# Altium integrated library Q-Resistors.IntLib: 917 symbols (part 3 of 8)
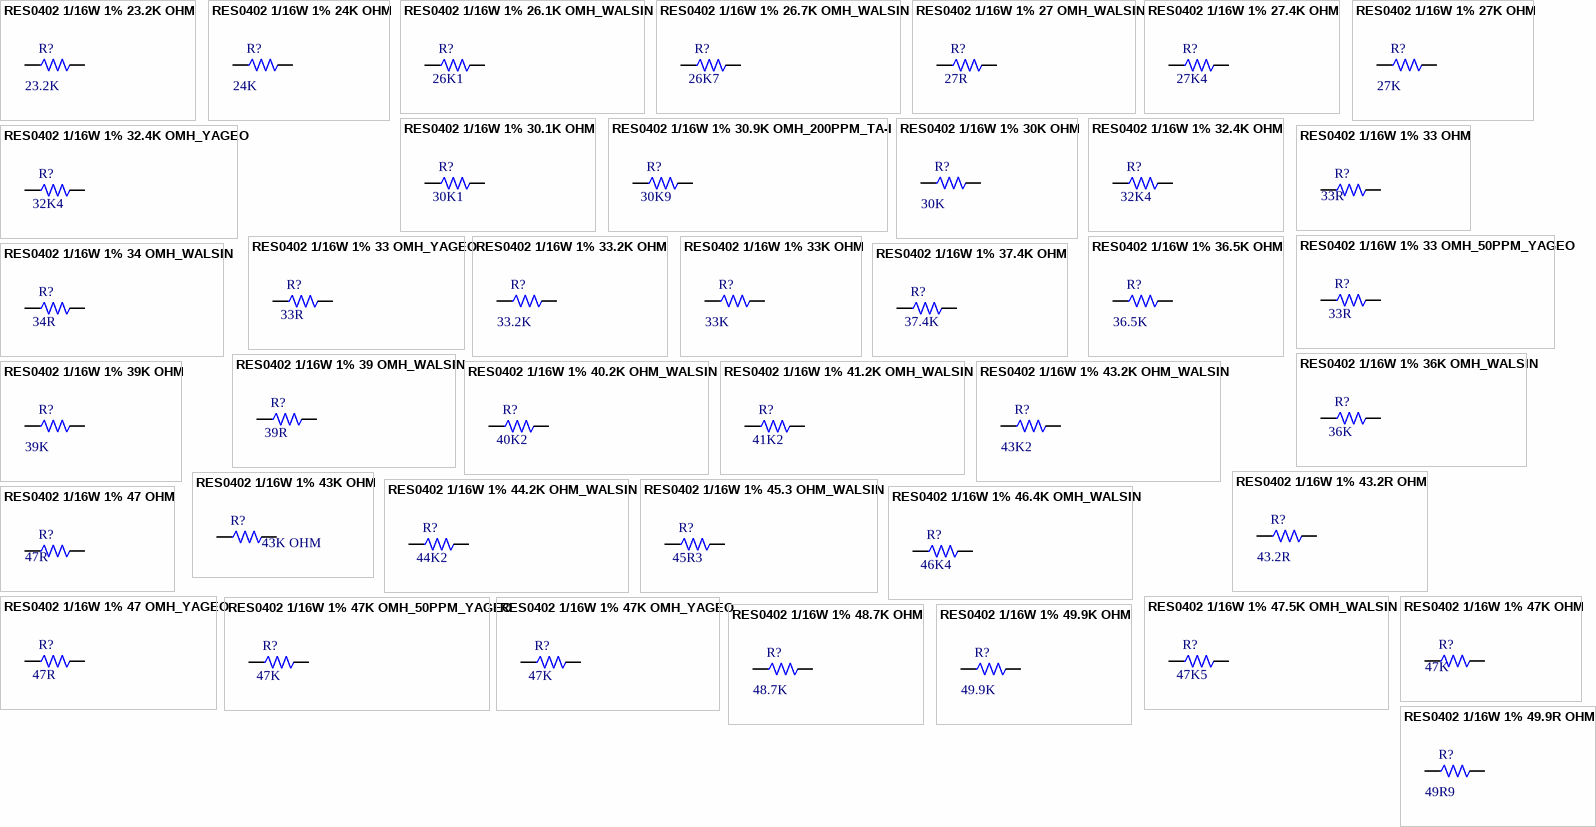
[diagram p24: symbols RES0402 1/16W 1% 23.2K OHM to RES0402 1/16W 1% 49.9R OHM]

## RES0402 1/16W 1% 34 OMH_WALSIN
designator R?, comment value 34R  (hidden comment: T502340A01399)
CHIP 34 OHM 1% 100PPM +-1% 0402 WALS L; MFG Part: WR04X34R0FTL; MFG: WALSIN (華新); Power: 1/16W; CREATE_NAME: Nathan; DIP&SMD: SMD; SAP: T502340A01399; Package: 0402; TOL: 1%; Vendor Code: *; Vendor Name: *; Type: Resistor; CREATE_TIME: 23-May-2016; Customer Specific: N/A
footprint 0402-RW
pins: 1, 2

## RES0402 1/16W 1% 36.5K OHM
designator R?, comment value 36.5K  (hidden comment: QCF161240-3652)
CHIP RES  36.5K OHM 1/16W 1% 0402; SAP: T502365201399; CREATE_NAME: GordonL@Deftronics; DIP&SMD: SMD; Vendor Code: *; Power: 1/16W; Vendor Name: *; MFG Part: *; MFG: *; TOL: 1%; Type: Resistor; CREATE_TIME: 05-Jan-2013; PACKAGE: 0402; Customer Specific: N/A
footprint 0402-RW
pins: 1, 2

## RES0402 1/16W 1% 36K OMH_WALSIN
designator R?, comment value 36K  (hidden comment: T502360201399)
CHIP 36K OHM 100PPM +-1% 0402 WALS L; TOL: 1%; MFG: WALSIN (華新); Power: 1/16W; CREATE_NAME: Nathan; DIP&SMD: SMD; SAP: T502360201399; Package: 0402; MFG Part: *; Vendor Code: *; Vendor Name: *; Type: Resistor; CREATE_TIME: 25-May-2016; Customer Specific: N/A
footprint 0402-RW
pins: 1, 2

## RES0402 1/16W 1% 37.4K OHM
designator R?, comment value 37.4K  (hidden comment: QCF161240-3742)
CHIP RES 37.4K OHM 1% 1/16W 0402; SAP: T502374201399; CREATE_NAME: Evan@Deftronics; DIP&SMD: SMD; Package: 0402; TOL: 1%; MFG Part: *; MFG: *; Vendor Code: *; Vendor Name: *; Type: Resistor; Power: 1/16W; CREATE_TIME: 02-Jun-2014; Customer Specific: N/A
footprint 0402-RW
pins: 1, 2

## RES0402 1/16W 1% 39 OMH_WALSIN
designator R?, comment value 39R  (hidden comment: T502390A01399)
CHIP 39 OHM    100PPM +-1% 0402 WALS L; TOL: 1%; MFG: WALSIN (華新); Power: 1/16W; CREATE_NAME: Nathan; DIP&SMD: SMD; SAP: T502390A01399; Package: 0402; MFG Part: *; Vendor Code: *; Vendor Name: *; Type: Resistor; CREATE_TIME: 25-May-2016; Customer Specific: N/A
footprint 0402-RW
pins: 1, 2

## RES0402 1/16W 1% 39K OHM
designator R?, comment value 39K  (hidden comment: QCF161240-3902)
CHIP RES 39K OHM 1% 1/16W 0402; SAP: T502390201399; CREATE_NAME: Nathan; DIP&SMD: SMD; Vendor Code: *; Power: 1/16W; Vendor Name: *; MFG Part: *; MFG: *; TOL: 1%; Type: Resistor; CREATE_TIME: 22-Dec-2014; PACKAGE: 0402; Customer Specific: N/A
footprint 0402-RW
pins: 1, 2

## RES0402 1/16W 1% 40.2K OHM_WALSIN
designator R?, comment value 40K2  (hidden comment: T502402201399)
CHIP 40.2K OHM 100PPM +-1% 0402 WALS L; MFG Part: WR04X4022FTL; TOL: 1%; MFG: WALSIN (華新); Power: 1/16W; CREATE_NAME: Nathan; DIP&SMD: SMD; SAP: T502402201399; Package: 0402; Vendor Code: *; Vendor Name: *; Type: Resistor; CREATE_TIME: 26-Sep-2019; Customer Specific: N/A
footprint 0402-RW
pins: 1, 2

## RES0402 1/16W 1% 41.2K OMH_WALSIN
designator R?, comment value 41K2  (hidden comment: T502412201399)
CHIP 41.2K OHM 100PPM +-1% 0402 WALS L; TOL: 1%; MFG: WALSIN (華新); Power: 1/16W; CREATE_NAME: Nathan; DIP&SMD: SMD; SAP: T502412201399; Package: 0402; MFG Part: *; Vendor Code: *; Vendor Name: *; Type: Resistor; CREATE_TIME: 25-May-2016; Customer Specific: N/A
footprint 0402-RW
pins: 1, 2

## RES0402 1/16W 1% 43.2K OHM_WALSIN
designator R?, comment value 43K2  (hidden comment: T502432201399)
CHIP 43.2K OHM 100PPM +-1% 0402 WALS L; MFG Part: WR04X4322FTL; Power: 1/16W; MFG: WALSIN (華新); TOL: 1%; CREATE_NAME: Nathan; DIP&SMD: SMD; Vendor Code: *; SAP: T502432201399; Vendor Name: *; Type: Resistor; CREATE_TIME: 15-May-2018; PACKAGE: 0402; Customer Specific: N/A
footprint 0402-RW
pins: 1, 2

## RES0402 1/16W 1% 43.2R OHM
designator R?, comment value 43.2R  (hidden comment: QCF161240-4329)
CHIP RES 43.2 OMH  1% 1/16W 0402; SAP: T502432A01399; CREATE_NAME: GordonL@Deftronics; DIP&SMD: SMD; Vendor Code: *; Power: 1/16W; Vendor Name: *; MFG Part: *; MFG: *; TOL: 1%; Type: Resistor; CREATE_TIME: 18-Mar-2014; PACKAGE: 0402; Customer Specific: N/A
footprint 0402-RW
pins: 1, 2

## RES0402 1/16W 1% 43K OHM
designator R?, comment value 43K OHM  (hidden comment: QCF161240-4302)
RES, 43K OHM, 1/16W, 1%, 0402, RoHS; SAP: T502430201399; CREATE_NAME: Evan@Deftronics; DIP&SMD: SMD; Package: 0402; TOL: 1%; MFG Part: *; MFG: *; Vendor Code: *; Vendor Name: *; Type: Resistor; Power: 1/16W; CREATE_TIME: 26-May-2014; Customer Specific: N/A
footprint 0402-RW
pins: 1, 2

## RES0402 1/16W 1% 44.2K OHM_WALSIN
designator R?, comment value 44K2  (hidden comment: T502442201399)
CHIP 44.2K OHM 100PPM +-1% 0402 WALS L; TOL: 1%; MFG: WALSIN (華新); Power: 1/16W; CREATE_NAME: Nathan; DIP&SMD: SMD; SAP: T502442201399; Package: 0402; MFG Part: *; Vendor Code: *; Vendor Name: *; Type: Resistor; CREATE_TIME: 25-Jun-2019; Customer Specific: N/A
footprint 0402-RW
pins: 1, 2

## RES0402 1/16W 1% 45.3 OHM_WALSIN
designator R?, comment value 45R3  (hidden comment: T502453A01399)
CHIP 45.3 OHM 100PPM +-1% 0402 WALS L; MFG Part: WR04X45R3FTL; Power: 1/16W; MFG: WALSIN (華新); TOL: 1%; CREATE_NAME: Nathan; DIP&SMD: SMD; Vendor Code: *; SAP: T502453A01399; Vendor Name: *; Type: Resistor; CREATE_TIME: 28-Apr-2020; PACKAGE: 0402; Customer Specific: N/A
footprint 0402-RW
pins: 1, 2

## RES0402 1/16W 1% 46.4K OMH_WALSIN
designator R?, comment value 46K4  (hidden comment: T502464201399)
CHIP 46.4K OHM 100PPM +-1% 0402 WALS L; TOL: 1%; MFG: WALSIN (華新); Power: 1/16W; CREATE_NAME: Nathan; DIP&SMD: SMD; SAP: T502464201399; Package: 0402; MFG Part: *; Vendor Code: *; Vendor Name: *; Type: Resistor; CREATE_TIME: 25-May-2016; Customer Specific: N/A
footprint 0402-RW
pins: 1, 2

## RES0402 1/16W 1% 47 OHM
designator R?, comment value 47R  (hidden comment: QCF161240-4709)
CHIP RES 47 OHM 1/16W 1% 0402; SAP: T502470A01399; MFG: WALSIN; DIP&SMD: SMD; Vendor Code: *; Power: 1/16W; Vendor Name: *; MFG Part: *; TOL: 1%; Type: Resistor; PACKAGE: 0402; Customer Specific: N/A
footprint 0402-RW
pins: 1, 2

## RES0402 1/16W 1% 47 OMH_YAGEO
designator R?, comment value 47R  (hidden comment: T502470A01391)
CHIP 47 OHM    100PPM +-1% 0402 YAGE L; TOL: 1%; MFG: YAGEO (國巨); Power: 1/16W; CREATE_NAME: Nathan; DIP&SMD: SMD; SAP: T502470A01391; Package: 0402; MFG Part: *; Vendor Code: *; Vendor Name: *; Type: Resistor; CREATE_TIME: 23-May-2016; Customer Specific: N/A
footprint 0402-RW
pins: 1, 2

## RES0402 1/16W 1% 47.5K OMH_WALSIN
designator R?, comment value 47K5  (hidden comment: T502475201399)
CHIP 47.5K OHM 100PPM +-1% 0402 WALS L; TOL: 1%; MFG: WALSIN (華新); Power: 1/16W; CREATE_NAME: Nathan; DIP&SMD: SMD; SAP: T502475201399; Package: 0402; MFG Part: *; Vendor Code: *; Vendor Name: *; Type: Resistor; CREATE_TIME: 25-May-2016; Customer Specific: N/A
footprint 0402-RW
pins: 1, 2

## RES0402 1/16W 1% 47K OHM
designator R?, comment value 47K  (hidden comment: QCF161243-4702)
CHIP RES 47K 1/16W 1% 0402; SAP: T502470201399; MFG: WALSIN; DIP&SMD: SMD; Vendor Code: *; Power: 1/16W; Vendor Name: *; MFG Part: *; TOL: 1%; Type: Resistor; PACKAGE: 0402; Customer Specific: N/A
footprint 0402-RW
pins: 1, 2

## RES0402 1/16W 1% 47K OMH_50PPM_YAGEO
designator R?, comment value 47K  (hidden comment: T501470201321)
CHIP 47K OHM   50PPM +-1% 0402 YAGE H; TOL: 1%; MFG: YAGEO (國巨); Power: 1/16W; CREATE_NAME: Nathan; DIP&SMD: SMD; SAP: T501470201321; Package: 0402; MFG Part: *; Vendor Code: *; Vendor Name: *; Type: Resistor; CREATE_TIME: 23-May-2016; Customer Specific: N/A
footprint 0402-RW
pins: 1, 2

## RES0402 1/16W 1% 47K OMH_YAGEO
designator R?, comment value 47K  (hidden comment: T502470201391)
CHIP 47K OHM   100PPM +-1% 0402 YAGE L; TOL: 1%; MFG: YAGEO (國巨); Power: 1/16W; CREATE_NAME: Nathan; DIP&SMD: SMD; SAP: T502470201391; Package: 0402; MFG Part: *; Vendor Code: *; Vendor Name: *; Type: Resistor; CREATE_TIME: 23-May-2016; Customer Specific: N/A
footprint 0402-RW
pins: 1, 2

## RES0402 1/16W 1% 48.7K OHM
designator R?, comment value 48.7K  (hidden comment: QCF161240-4872)
CHIP RES  48.7K OHM 1/16W 1% 0402; SAP: T502487201399; CREATE_NAME: GordonL@Deftronics; DIP&SMD: SMD; Vendor Code: *; Power: 1/16W; Vendor Name: *; MFG Part: *; MFG: *; TOL: 1%; Type: Resistor; CREATE_TIME: 05-Jan-2013; PACKAGE: 0402; Customer Specific: N/A
footprint 0402-RW
pins: 1, 2

## RES0402 1/16W 1% 49.9K OHM
designator R?, comment value 49.9K  (hidden comment: QCF161240-4992)
CHIP RES. 49.9K OHM 1/16W 1% 0402; SAP: T502499201399; CREATE_NAME: GordonL@Deftronics; DIP&SMD: SMD; Vendor Code: *; Power: 1/16W; Vendor Name: *; MFG Part: *; MFG: *; TOL: 1%; Type: Resistor; CREATE_TIME: 05-Jan-2013; PACKAGE: 0402; Customer Specific: N/A
footprint 0402-RW
pins: 1, 2

## RES0402 1/16W 1% 49.9R OHM
designator R?, comment value 49R9  (hidden comment: QCF161241-4999)
CHIP RES 49.9 OMH 1/16W 1% 0402; SAP: T502499A01399; CREATE_NAME: GordonL@Deftronics; DIP&SMD: SMD; Vendor Code: *; Power: 1/16W; Vendor Name: *; MFG Part: *; MFG: *; TOL: 1%; Type: Resistor; CREATE_TIME: 21-Feb-2014; PACKAGE: 0402; Customer Specific: N/A
footprint 0402-RW
pins: 1, 2

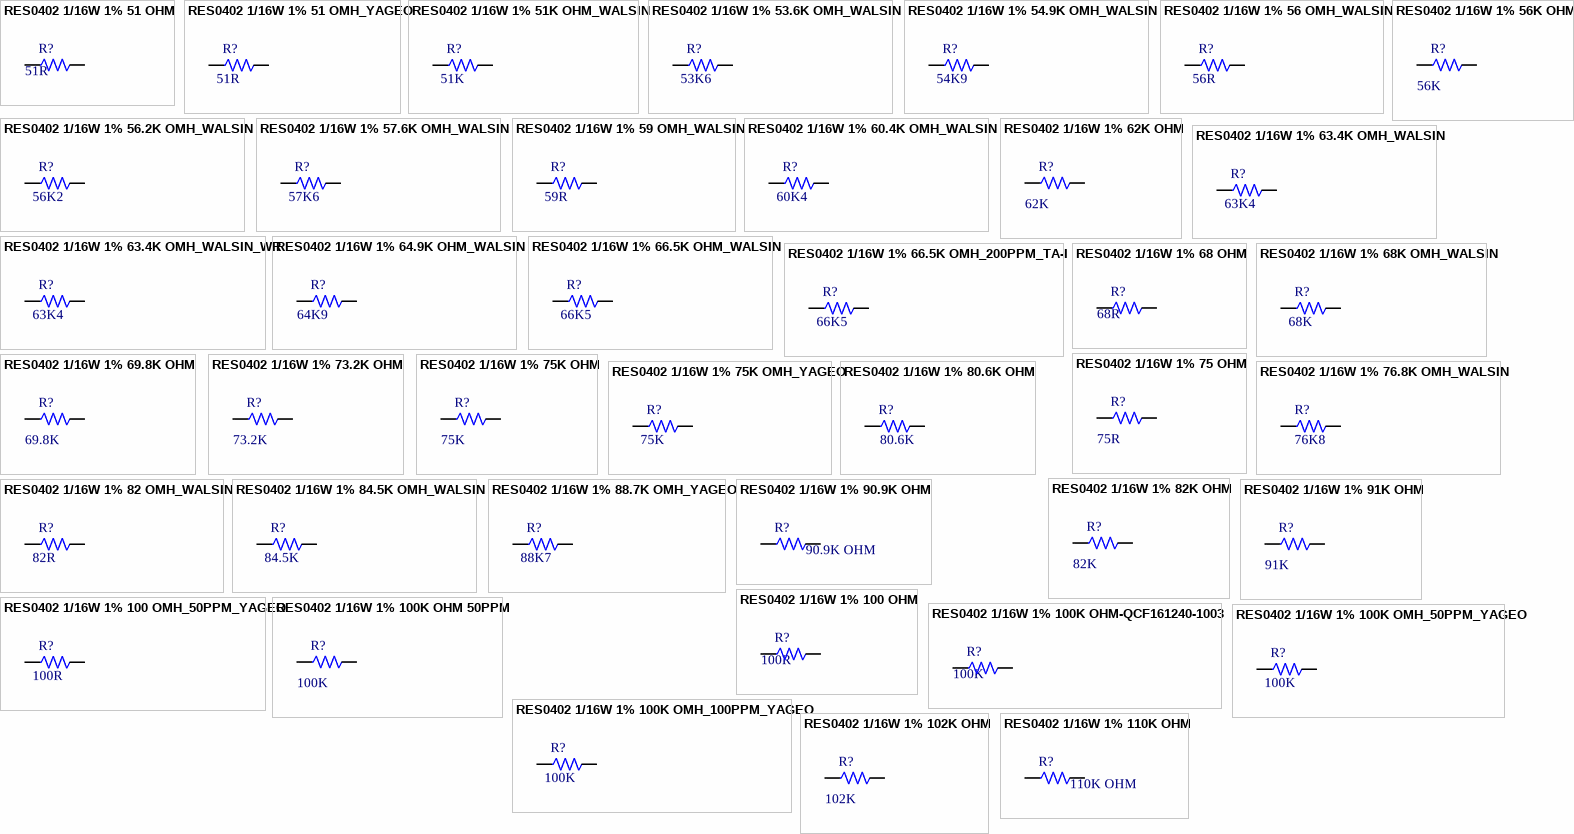
[diagram p7: symbols RES0402 1/16W 1% 51 OHM to RES0402 1/16W 1% 110K OHM]

## RES0402 1/16W 1% 51 OHM
designator R?, comment value 51R  (hidden comment: QCF161240-5109)
CHIP RES  51 OHM 1/16W 1% 0402; SAP: T502510A01399; CREATE_NAME: GordonL@Deftronics; DIP&SMD: SMD; Vendor Code: *; Power: 1/16W; Vendor Name: *; MFG Part: *; MFG: *; TOL: 1%; CREATE_TIME: 05-Jan-2013; Type: Resistor; PACKAGE: 0402; Customer Specific: N/A
footprint 0402-RW
pins: 1, 2

## RES0402 1/16W 1% 51 OMH_YAGEO
designator R?, comment value 51R  (hidden comment: T502510A01391)
CHIP 51 OHM    100PPM +-1% 0402 YAGE L; TOL: 1%; MFG: YAGEO (國巨); Power: 1/16W; CREATE_NAME: Nathan; DIP&SMD: SMD; SAP: T502510A01391; Package: 0402; MFG Part: *; Vendor Code: *; Vendor Name: *; Type: Resistor; CREATE_TIME: 23-May-2016; Customer Specific: N/A
footprint 0402-RW
pins: 1, 2

## RES0402 1/16W 1% 51K OHM_WALSIN
designator R?, comment value 51K  (hidden comment: T502510201399)
CHIP 51K OHM 100PPM +-1% 0402 WALS L; TOL: 1%; MFG: WALSIN (華新); Power: 1/16W; CREATE_NAME: Tom; DIP&SMD: SMD; SAP: T502510201399; Package: 0402; MFG Part: *; Vendor Code: *; Vendor Name: *; Type: Resistor; CREATE_TIME: 25-Jul-2019; Customer Specific: N/A
footprint 0402-RW
pins: 1, 2

## RES0402 1/16W 1% 53.6K OMH_WALSIN
designator R?, comment value 53K6  (hidden comment: T502536201399)
CHIP 53.6K OHM 100PPM +-1% 0402 WALS L; TOL: 1%; MFG: WALSIN (華新); Power: 1/16W; CREATE_NAME: Nathan; DIP&SMD: SMD; SAP: T502536201399; Package: 0402; MFG Part: *; Vendor Code: *; Vendor Name: *; Type: Resistor; CREATE_TIME: 25-May-2016; Customer Specific: N/A
footprint 0402-RW
pins: 1, 2

## RES0402 1/16W 1% 54.9K OMH_WALSIN
designator R?, comment value 54K9  (hidden comment: T502549201399)
CHIP 54.9K OHM 100PPM +-1% 0402 WALS L; TOL: 1%; MFG: WALSIN (華新); Power: 1/16W; CREATE_NAME: Nathan; DIP&SMD: SMD; SAP: T502549201399; Package: 0402; MFG Part: *; Vendor Code: *; Vendor Name: *; Type: Resistor; CREATE_TIME: 25-May-2016; Customer Specific: N/A
footprint 0402-RW
pins: 1, 2

## RES0402 1/16W 1% 56 OMH_WALSIN
designator R?, comment value 56R  (hidden comment: T502560A01399)
CHIP 56 OHM 100PPM +-1% 0402 WALS L; TOL: 1%; MFG: WALSIN (華新); Power: 1/16W; CREATE_NAME: Nathan; DIP&SMD: SMD; SAP: T502560A01399; Package: 0402; MFG Part: *; Vendor Code: *; Vendor Name: *; Type: Resistor; CREATE_TIME: 25-May-2016; Customer Specific: N/A
footprint 0402-RW
pins: 1, 2

## RES0402 1/16W 1% 56.2K OMH_WALSIN
designator R?, comment value 56K2  (hidden comment: T502562201399)
CHIP 56.2K OHM 100PPM +-1% 0402 WALS L; TOL: 1%; MFG: WALSIN (華新); Power: 1/16W; CREATE_NAME: Nathan; DIP&SMD: SMD; SAP: T502562201399; Package: 0402; MFG Part: *; Vendor Code: *; Vendor Name: *; Type: Resistor; CREATE_TIME: 25-May-2016; Customer Specific: N/A
footprint 0402-RW
pins: 1, 2

## RES0402 1/16W 1% 56K OHM
designator R?, comment value 56K  (hidden comment: QCF161240-5602)
CHIP RES 56K OHM 1% 1/16W 0402; SAP: T502560201399; CREATE_NAME: GordonL@Deftronics; DIP&SMD: SMD; Vendor Code: *; Power: 1/16W; Vendor Name: *; MFG Part: *; MFG: *; TOL: 1%; Type: Resistor; CREATE_TIME: 18-Feb-2014; PACKAGE: 0402; Customer Specific: N/A
footprint 0402-RW
pins: 1, 2

## RES0402 1/16W 1% 57.6K OMH_WALSIN
designator R?, comment value 57K6  (hidden comment: T502576201399)
CHIP 57.6K OHM 100PPM +-1% 0402 WALS L; TOL: 1%; MFG: WALSIN (華新); Power: 1/16W; CREATE_NAME: Nathan; DIP&SMD: SMD; SAP: T502576201399; Package: 0402; MFG Part: *; Vendor Code: *; Vendor Name: *; Type: Resistor; CREATE_TIME: 25-May-2016; Customer Specific: N/A
footprint 0402-RW
pins: 1, 2

## RES0402 1/16W 1% 59 OMH_WALSIN
designator R?, comment value 59R  (hidden comment: T502590A01399)
CHIP 59 OHM    100PPM +-1% 0402 WALS L; TOL: 1%; MFG: WALSIN (華新); Power: 1/16W; CREATE_NAME: Nathan; DIP&SMD: SMD; SAP: T502590A01399; Package: 0402; MFG Part: *; Vendor Code: *; Vendor Name: *; Type: Resistor; CREATE_TIME: 25-May-2016; Customer Specific: N/A
footprint 0402-RW
pins: 1, 2

## RES0402 1/16W 1% 60.4K OMH_WALSIN
designator R?, comment value 60K4  (hidden comment: T502604201399)
CHIP 60.4K OHM 100PPM +-1% 0402 WALS L; MFG Part: WR04X6042FTL; TOL: 1%; MFG: WALSIN (華新); Power: 1/16W; CREATE_NAME: Nathan; DIP&SMD: SMD; SAP: T502604201399; Package: 0402; Vendor Code: *; Vendor Name: *; Type: Resistor; CREATE_TIME: 23-Apr-2019; Customer Specific: N/A
footprint 0402-RW
pins: 1, 2

## RES0402 1/16W 1% 62K OHM
designator R?, comment value 62K  (hidden comment: QCF161240-6202)
CHIP RES 62K OHM 1% 1/16W 0402; SAP: T502620201399; CREATE_NAME: GordonL@Deftronics; DIP&SMD: SMD; Vendor Code: *; Power: 1/16W; Vendor Name: *; MFG Part: *; MFG: *; TOL: 1%; Type: Resistor; CREATE_TIME: 11-Mar-2014; PACKAGE: 0402; Customer Specific: N/A
footprint 0402-RW
pins: 1, 2

## RES0402 1/16W 1% 63.4K OMH_WALSIN
designator R?  value 63K4  (hidden comment: *)
CHIP 63.4K OHM 100PPM +-1% 0402 WALS L; MFG Part: MR04X6342FTL; TOL: 1%; MFG: WALSIN; Power: 1/16W; CREATE_NAME: Nathan; DIP&SMD: SMD; SAP: *; Package: 0402; Vendor Code: *; Vendor Name: *; Type: Resistor; CREATE_TIME: 09-Sep-2020; Customer Specific: N/A
footprint 0402-RW
pins: 1, 2

## RES0402 1/16W 1% 63.4K OMH_WALSIN_WR
designator R?  value 63K4  (hidden comment: *)
CHIP 63.4K OHM 100PPM +-1% 0402 WALS L; MFG Part: WR04X6342FTL; TOL: 1%; MFG: WALSIN; Power: 1/16W; CREATE_NAME: Nathan; DIP&SMD: SMD; SAP: *; Package: 0402; Vendor Code: *; Vendor Name: *; Type: Resistor; CREATE_TIME: 24-Sep-2020; Customer Specific: N/A
footprint 0402-RW
pins: 1, 2

## RES0402 1/16W 1% 64.9K OHM_WALSIN
designator R?  value 64K9  (hidden comment: *)
CHIP 64.9KOHM 100PPM +-1% 0402 WALSIN; MFG Part: WR04X6492FTL; Power: 1/16W; MFG: WALSIN (華新); TOL: 1%; CREATE_NAME: Nathan; DIP&SMD: SMD; Vendor Code: *; SAP: *; Vendor Name: *; Type: Resistor; PACKAGE: 0402; CREATE_TIME: 16-Oct-2020; Customer Specific: N/A
footprint 0402-RW
pins: 1, 2

## RES0402 1/16W 1% 66.5K OHM_WALSIN
designator R?, comment value 66K5  (hidden comment: T502665201399)
CHIP 66.5K OHM 100PPM +-1% 0402 WALS L; MFG Part: WR04X6652FTL; Power: 1/16W; MFG: WALSIN (華新); TOL: 1%; CREATE_NAME: Nathan; DIP&SMD: SMD; Vendor Code: *; SAP: T502665201399; Vendor Name: *; Type: Resistor; CREATE_TIME: 03-Jan-2018; PACKAGE: 0402; Customer Specific: N/A
footprint 0402-RW
pins: 1, 2

## RES0402 1/16W 1% 66.5K OMH_200PPM_TA-I
designator R?, comment value 66K5  (hidden comment: T5026652013A4)
CHIP 66.5K OHM 200PPM +-1% 0402 TA-I L; TOL: 1%; MFG: TA-I (大毅); Power: 1/16W; CREATE_NAME: Nathan; DIP&SMD: SMD; SAP: T5026652013A4; Package: 0402; MFG Part: *; Vendor Code: *; Vendor Name: *; Type: Resistor; CREATE_TIME: 03-July-2016; Customer Specific: N/A
footprint 0402-RW
pins: 1, 2

## RES0402 1/16W 1% 68 OHM
designator R?, comment value 68R  (hidden comment: QCF161241-6809)
CHIP RES 68 OHM 1% 1/16W 0402 WALSIN; SAP: T502680A01399; CREATE_NAME: GordonL@Deftronics; DIP&SMD: SMD; Vendor Code: *; Power: 1/16W; Vendor Name: *; MFG Part: *; MFG: WALSIN; TOL: 1%; CREATE_TIME: 17-OCT-2012; Type: Resistor; PACKAGE: 0402; Customer Specific: N/A
footprint 0402-RW
pins: 1, 2

## RES0402 1/16W 1% 68K OMH_WALSIN
designator R?, comment value 68K  (hidden comment: T502680201399)
CHIP 68K OHM 100PPM +-1% 0402 WALS L; MFG Part: WR04X6802FTL; TOL: 1%; MFG: WALSIN (華新); Power: 1/16W; CREATE_NAME: Nathan; DIP&SMD: SMD; SAP: T502680201399; Package: 0402; Vendor Code: *; Vendor Name: *; Type: Resistor; CREATE_TIME: 08-Jan-2018; Customer Specific: N/A
footprint 0402-RW
pins: 1, 2

## RES0402 1/16W 1% 69.8K OHM
designator R?, comment value 69.8K  (hidden comment: QCF161240-6982)
CHIP RES 69.8K OHM 1% 1/16W 0402; SAP: T502698201399; MFG: TA-I (大毅); CREATE_NAME: GordonL@Deftronics; DIP&SMD: SMD; Vendor Code: *; Power: 1/16W; Vendor Name: *; MFG Part: *; TOL: 1%; Type: Resistor; CREATE_TIME: 24-Feb-2014; PACKAGE: 0402; Customer Specific: N/A
footprint 0402-RW
pins: 1, 2

## RES0402 1/16W 1% 73.2K OHM
designator R?, comment value 73.2K  (hidden comment: QCF161240-7322)
CHIP RES 73.2K OHM 1% 1/16W 0402 ??; SAP: T502732201399; CREATE_NAME: GordonL@Deftronics; DIP&SMD: SMD; Vendor Code: *; Power: 1/16W; Vendor Name: *; MFG Part: *; MFG: *; TOL: 1%; Type: Resistor; CREATE_TIME: 11-Mar-2014; PACKAGE: 0402; Customer Specific: N/A
footprint 0402-RW
pins: 1, 2

## RES0402 1/16W 1% 75 OHM
designator R?, comment value 75R  (hidden comment: QCF161240-7509)
CHIP RES. 75 OHM 1% 1/16W 0402; SAP: T502750A01399; CREATE_NAME: GordonL@Deftronics; DIP&SMD: SMD; Vendor Code: *; Power: 1/16W; Vendor Name: *; MFG Part: *; MFG: *; TOL: 1%; Type: Resistor; CREATE_TIME: 05-Jan-2013; PACKAGE: 0402; Customer Specific: N/A
footprint 0402-RW
pins: 1, 2

## RES0402 1/16W 1% 75K OHM
designator R?, comment value 75K  (hidden comment: QCF161240-7502)
CHIP RES 75K OHM 1% 1/16W 0402; SAP: T502750201399; MFG: WALSIN; CREATE_NAME: GordonL@Deftronics; DIP&SMD: SMD; Vendor Code: *; Power: 1/16W; Vendor Name: *; MFG Part: *; TOL: 1%; Type: Resistor; CREATE_TIME: 28-Feb-2014; PACKAGE: 0402; Customer Specific: N/A
footprint 0402-RW
pins: 1, 2

## RES0402 1/16W 1% 75K OMH_YAGEO
designator R?, comment value 75K  (hidden comment: T502750201391)
CHIP 75K OHM 100PPM +-1% 0402 YAGE L; MFG Part: RC0402FR-0775KL; TOL: 1%; MFG: YAGEO; Power: 1/16W; CREATE_NAME: Tom; DIP&SMD: SMD; SAP: T502750201391; Package: 0402; Type: Resistor; CREATE_TIME: 06-May-2020; Customer Specific: N/A
footprint 0402-RW
pins: 1, 2

## RES0402 1/16W 1% 76.8K OMH_WALSIN
designator R?, comment value 76K8  (hidden comment: T502768201399)
CHIP 76.8K OHM 100PPM +-1% 0402 WALS L; TOL: 1%; MFG: WALSIN; Power: 1/16W; CREATE_NAME: Beryl; DIP&SMD: SMD; SAP: T502768201399; Package: 0402; MFG Part: *; Vendor Code: *; Vendor Name: *; Type: Resistor; CREATE_TIME: 06-Feb-2020; Customer Specific: N/A
footprint 0402-RW
pins: 1, 2

## RES0402 1/16W 1% 80.6K OHM
designator R?, comment value 80.6K  (hidden comment: QCF161240-8062)
CHIP RES 80.6K OHM 1/16W 1% 0402; SAP: T502806201399; CREATE_NAME: TOM@Deftronics; DIP&SMD: SMD; TOL: 1%; MFG Part: *; MFG: *; Vendor Code: *; Vendor Name: *; Type: Resistor; CREATE_TIME: 13-Nov-2013; PACKAGE: 0402; Power: 1/16W; Customer Specific: N/A
footprint 0402-RW
pins: 1, 2

## RES0402 1/16W 1% 82 OMH_WALSIN
designator R?, comment value 82R  (hidden comment: T502820A01399)
CHIP 82 OHM    100PPM +-1% 0402 WALS L; TOL: 1%; MFG: WALSIN (華新); Power: 1/16W; CREATE_NAME: Nathan; DIP&SMD: SMD; SAP: T502820A01399; Package: 0402; MFG Part: *; Vendor Code: *; Vendor Name: *; Type: Resistor; CREATE_TIME: 25-May-2016; Customer Specific: N/A
footprint 0402-RW
pins: 1, 2

## RES0402 1/16W 1% 82K OHM
designator R?, comment value 82K  (hidden comment: QCF161240-8202)
CHIP RES 82K OHM 1/16W 1% 0402; SAP: T502820201399; CREATE_NAME: GordonL@Deftronics; DIP&SMD: SMD; Vendor Code: *; Power: 1/16W; Vendor Name: *; MFG Part: *; MFG: *; TOL: 1%; Type: Resistor; CREATE_TIME: 18-Feb-2014; PACKAGE: 0402; Customer Specific: N/A
footprint 0402-RW
pins: 1, 2

## RES0402 1/16W 1% 84.5K OMH_WALSIN
designator R?, comment value 84.5K  (hidden comment: T502845201399)
CHIP 84.5K OHM 100PPM +-1% 0402 WALS L; MFG Part: WR04X8452FTL; TOL: 1%; MFG: WALSIN; Power: 1/16W; CREATE_NAME: Tom; DIP&SMD: SMD; SAP: T502845201399; Package: 0402; Type: Resistor; CREATE_TIME: 29-Oct-2019; Customer Specific: N/A
footprint 0402-RW
pins: 1, 2

## RES0402 1/16W 1% 88.7K OMH_YAGEO
designator R?, comment value 88K7  (hidden comment: T502887201391)
CHIP 88.7K OHM 100PPM +-1% 0402 YAGE L; TOL: 1%; MFG: YAGEO (國巨); Power: 1/16W; CREATE_NAME: Nathan; DIP&SMD: SMD; SAP: T502887201391; Package: 0402; MFG Part: *; Vendor Code: *; Vendor Name: *; Type: Resistor; CREATE_TIME: 23-May-2016; Customer Specific: N/A
footprint 0402-RW
pins: 1, 2

## RES0402 1/16W 1% 90.9K OHM
designator R?, comment value 90.9K OHM  (hidden comment: QCF161240-9092)
CHIP RES 90.9K OHM 1% 1/16W 0402; SAP: T502909201399; CREATE_NAME: TOM@Deftronics; DIP&SMD: SMD; Package: 0402; TOL: 1%; MFG Part: *; MFG: *; Vendor Code: *; Vendor Name: *; Type: Resistor; Power: 1/16W; CREATE_TIME: 15-May-2014; Customer Specific: N/A
footprint 0402-RW
pins: 1, 2

## RES0402 1/16W 1% 91K OHM
designator R?, comment value 91K  (hidden comment: QCF161240-9102)
CHIP 91K OHM 100PPM +-1% 0402 WALS L; SAP: T502910201399; Power: 1/16W; MFG: WALSIN (華新); TOL: 1%; CREATE_NAME: Nathan; DIP&SMD: SMD; Vendor Code: *; Vendor Name: *; MFG Part: *; Type: Resistor; CREATE_TIME: 25-Sep-2015; PACKAGE: 0402; Customer Specific: N/A
footprint 0402-RW
pins: 1, 2

## RES0402 1/16W 1% 100 OHM
designator R?, comment value 100R  (hidden comment: QCF161240-1000)
CHIP RES 100 OHM 1/16W 1% 0402; SAP: T502100001399; MFG: WALSIN; DIP&SMD: SMD; Vendor Code: *; Power: 1/16W; Vendor Name: *; MFG Part: *; TOL: 1%; Type: Resistor; PACKAGE: 0402; Customer Specific: N/A
footprint 0402-RW
pins: 1, 2

## RES0402 1/16W 1% 100 OMH_50PPM_YAGEO
designator R?, comment value 100R  (hidden comment: T501100001321)
CHIP 100 OHM   50PPM +-1% 0402 YAGE H; TOL: 1%; MFG: YAGEO (國巨); Power: 1/16W; CREATE_NAME: Nathan; DIP&SMD: SMD; SAP: T501100001321; Package: 0402; MFG Part: *; Vendor Code: *; Vendor Name: *; Type: Resistor; CREATE_TIME: 23-May-2016; Customer Specific: N/A
footprint 0402-RW
pins: 1, 2

## RES0402 1/16W 1% 100K OHM 50PPM
designator R?, comment value 100K  (hidden comment: QCF161241-1003)
CHIP RES 100K OHM 1/16W 1% 0402 50ppm; SAP: T501100301329; MFG: WALSIN; DIP&SMD: SMD; Vendor Code: *; Power: 1/16W; Vendor Name: *; MFG Part: *; TOL: 1%; Type: Resistor; PACKAGE: 0402; Customer Specific: N/A
footprint 0402-RW
pins: 1, 2

## RES0402 1/16W 1% 100K OHM-QCF161240-1003
designator R?, comment value 100K  (hidden comment: QCF161240-1003)
CHIP RES 100K OHM 1/16W 1% 0402; SAP: T502100301399; MFG: WALSIN; DIP&SMD: SMD; Vendor Code: *; Power: 1/16W; Vendor Name: *; MFG Part: *; TOL: 1%; Type: Resistor; PACKAGE: 0402; Customer Specific: N/A
footprint 0402-RW
pins: 1, 2

## RES0402 1/16W 1% 100K OMH_50PPM_YAGEO
designator R?, comment value 100K  (hidden comment: T501100301321)
CHIP 100K OHM  50PPM +-1% 0402 YAGE H; TOL: 1%; MFG: YAGEO (國巨); Power: 1/16W; CREATE_NAME: Nathan; DIP&SMD: SMD; SAP: T501100301321; Package: 0402; MFG Part: *; Vendor Code: *; Vendor Name: *; Type: Resistor; CREATE_TIME: 23-May-2016; Customer Specific: N/A
footprint 0402-RW
pins: 1, 2

## RES0402 1/16W 1% 100K OMH_100PPM_YAGEO
designator R?, comment value 100K  (hidden comment: T5021003013A1)
CHIP 100K OHM 100PPM +-1% 0402 YAGE L; MFG Part: RC0402FX-XX100KL; TOL: 1%; MFG: YAGEO (國巨); Power: 1/16W; CREATE_NAME: Nathan; DIP&SMD: SMD; SAP: T5021003013A1; Package: 0402; Vendor Code: *; Vendor Name: *; Type: Resistor; CREATE_TIME: 14-Oct-2020; Customer Specific: N/A
footprint 0402-RW
pins: 1, 2

## RES0402 1/16W 1% 102K OHM
designator R?, comment value 102K  (hidden comment: T502102301399)
CHIP RES 102K OHM 1/16W 1% 0402; MFG: WALSIN; CREATE_NAME: Nathan; DIP&SMD: SMD; Vendor Code: *; SAP: T502102301399; Power: 1/16W; Vendor Name: *; MFG Part: *; TOL: 1%; Type: Resistor; CREATE_TIME: 23-July-2015; PACKAGE: 0402; Customer Specific: N/A
footprint 0402-RW
pins: 1, 2

## RES0402 1/16W 1% 110K OHM
designator R?, comment value 110K OHM  (hidden comment: QCF161240-1103)
RES, 110K OHM, 1/16W, 1%, 0402, HF; SAP: T502110301399; CREATE_NAME: TOM@Deftronics; DIP&SMD: SMD; Package: 0402; TOL: 1%; MFG Part: *; MFG: *; Vendor Code: *; Vendor Name: *; Type: Resistor; Power: 1/16W; CREATE_TIME: 13-May-2014; Customer Specific: N/A
footprint 0402-RW
pins: 1, 2

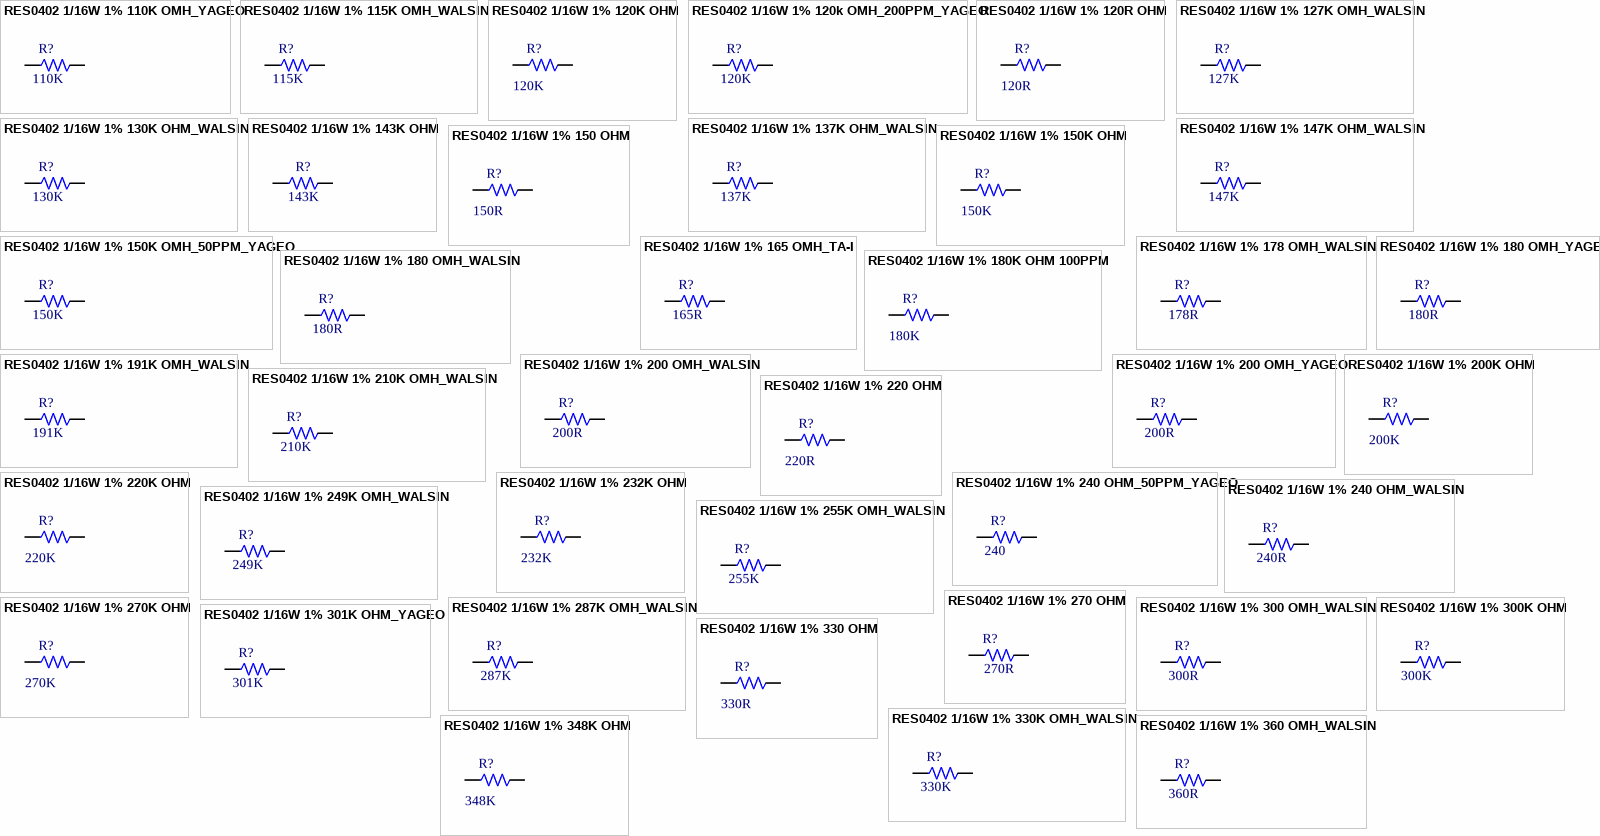
[diagram p8: symbols RES0402 1/16W 1% 110K OMH_YAGEO to RES0402 1/16W 1% 360 OMH_WALSIN]

## RES0402 1/16W 1% 110K OMH_YAGEO
designator R?, comment value 110K  (hidden comment: T502110301391)
CHIP 110K OHM  100PPM +-1% 0402 YAGE L; TOL: 1%; MFG: YAGEO (國巨); Power: 1/16W; CREATE_NAME: Nathan; DIP&SMD: SMD; SAP: T502110301391; Package: 0402; MFG Part: *; Vendor Code: *; Vendor Name: *; Type: Resistor; CREATE_TIME: 23-May-2016; Customer Specific: N/A
footprint 0402-RW
pins: 1, 2

## RES0402 1/16W 1% 115K OMH_WALSIN
designator R?, comment value 115K  (hidden comment: T502115301399)
CHIP 115K OHM  100PPM +-1% 0402 WALS L; TOL: 1%; MFG: WALSIN (華新); Power: 1/16W; CREATE_NAME: Nathan; DIP&SMD: SMD; SAP: T502115301399; Package: 0402; MFG Part: *; Vendor Code: *; Vendor Name: *; Type: Resistor; CREATE_TIME: 25-May-2016; Customer Specific: N/A
footprint 0402-RW
pins: 1, 2

## RES0402 1/16W 1% 120K OHM
designator R?, comment value 120K  (hidden comment: QCF161240-1203)
CHIP 120K OHM 100PPM +-1% 0402 WALS L; SAP: T502120301399; Power: 1/16W; MFG: WALSIN; TOL: 1%; DIP&SMD: SMD; Vendor Code: *; Vendor Name: *; MFG Part: *; Type: Resistor; PACKAGE: 0402; Customer Specific: N/A
footprint 0402-RW
pins: 1, 2

## RES0402 1/16W 1% 120k OMH_200PPM_YAGEO
designator R?, comment value 120K  (hidden comment: T5021203013A1)
CHIP 120K OHM  200PPM +-1% 0402 YAGE L; TOL: 1%; MFG: YAGEO (國巨); Power: 1/16W; CREATE_NAME: Nathan; DIP&SMD: SMD; SAP: T5021203013A1; Package: 0402; MFG Part: *; Vendor Code: *; Vendor Name: *; Type: Resistor; CREATE_TIME: 23-May-2016; Customer Specific: N/A
footprint 0402-RW
pins: 1, 2

## RES0402 1/16W 1% 120R OHM
designator R?, comment value 120R  (hidden comment: QCF161241-1200)
CHIP RES 120 OHM 1% 1/16W 0402 WALSIN; SAP: T502120001399; CREATE_NAME: GordonL@Deftronics; DIP&SMD: SMD; Vendor Code: *; Power: 1/16W; Vendor Name: *; MFG Part: *; MFG: WALSIN; TOL: 1%; CREATE_TIME: 19-OCT-2012; Type: Resistor; PACKAGE: 0402; Customer Specific: N/A
footprint 0402-RW
pins: 1, 2

## RES0402 1/16W 1% 127K OMH_WALSIN
designator R?, comment value 127K  (hidden comment: T502127301399)
CHIP 127K OHM  100PPM +-1% 0402 WALS L; TOL: 1%; MFG: WALSIN (華新); Power: 1/16W; CREATE_NAME: Nathan; DIP&SMD: SMD; SAP: T502127301399; Package: 0402; MFG Part: *; Vendor Code: *; Vendor Name: *; Type: Resistor; CREATE_TIME: 25-May-2016; Customer Specific: N/A
footprint 0402-RW
pins: 1, 2

## RES0402 1/16W 1% 130K OHM_WALSIN
designator R?, comment value 130K  (hidden comment: T502130301399)
CHIP 130K OHM 100PPM +-1% 0402 WALS L; MFG Part: WR04X1303FTL; TOL: 1%; MFG: WALSIN (華新); Power: 1/16W; CREATE_NAME: Nathan; DIP&SMD: SMD; SAP: T502130301399; Package: 0402; Vendor Code: *; Vendor Name: *; Type: Resistor; CREATE_TIME: 07-Oct-2019; Customer Specific: N/A
footprint 0402-RW
pins: 1, 2

## RES0402 1/16W 1% 137K OHM_WALSIN
designator R?, comment value 137K  (hidden comment: T502137301399)
CHIP 137K OHM 100PPM +-1% 0402 WALS L; MFG Part: WR04X1373FTL; TOL: 1%; MFG: WALSIN (華新); Power: 1/16W; CREATE_NAME: Nathan; DIP&SMD: SMD; SAP: T502137301399; Package: 0402; Vendor Code: *; Vendor Name: *; Type: Resistor; CREATE_TIME: 26-Sep-2019; Customer Specific: N/A
footprint 0402-RW
pins: 1, 2

## RES0402 1/16W 1% 143K OHM
designator R?, comment value 143K  (hidden comment: QCF161240-1433)
CHIP RES 143K OHM 1% 1/16W 0402; SAP: T502143301399; CREATE_NAME: Nathan; DIP&SMD: SMD; Package: 0402; TOL: 1%; MFG Part: *; MFG: *; Vendor Code: *; Vendor Name: *; Type: Resistor; Power: 1/16W; CREATE_TIME: 15-Apr-2015; Customer Specific: N/A
footprint 0402-RW
pins: 1, 2

## RES0402 1/16W 1% 147K OHM_WALSIN
designator R?, comment value 147K  (hidden comment: T502147301399)
CHIP 147K OHM 100PPM +-1% 0402 WALS L; MFG Part: WR04X1473FTL; TOL: 1%; MFG: WALSIN; Power: 1/16W; CREATE_NAME: Tom; DIP&SMD: SMD; SAP: T502147301399; Package: 0402; Vendor Code: *; Vendor Name: *; Type: Resistor; CREATE_TIME: 27-Aug-2019; Customer Specific: N/A
footprint 0402-RW
pins: 1, 2

## RES0402 1/16W 1% 150 OHM
designator R?, comment value 150R  (hidden comment: QCF161240-1500)
CHIP RES 150 OHM 1/16W 1% 0402; SAP: T502150001399; MFG: WALSIN; DIP&SMD: SMD; Vendor Code: *; Power: 1/16W; Vendor Name: *; MFG Part: *; TOL: 1%; Type: Resistor; PACKAGE: 0402; Customer Specific: N/A
footprint 0402-RW
pins: 1, 2

## RES0402 1/16W 1% 150K OHM
designator R?, comment value 150K  (hidden comment: QCF161241-1503)
CHIP RES 150K OHM 1/16W 1% 0402; SAP: T502150301399; MFG: WALSIN; DIP&SMD: SMD; Vendor Code: *; Power: 1/16W; Vendor Name: *; MFG Part: *; TOL: 1%; Type: Resistor; PACKAGE: 0402; Customer Specific: N/A
footprint 0402-RW
pins: 1, 2

## RES0402 1/16W 1% 150K OMH_50PPM_YAGEO
designator R?, comment value 150K  (hidden comment: T501150301321)
CHIP 150K OHM  50PPM +-1% 0402 YAGE H; TOL: 1%; MFG: YAGEO (國巨); Power: 1/16W; CREATE_NAME: Nathan; DIP&SMD: SMD; SAP: T501150301321; Package: 0402; MFG Part: *; Vendor Code: *; Vendor Name: *; Type: Resistor; CREATE_TIME: 23-May-2016; Customer Specific: N/A
footprint 0402-RW
pins: 1, 2

## RES0402 1/16W 1% 165 OMH_TA-I
designator R?, comment value 165R  (hidden comment: T502165001394)
CHIP 165 OHM   100PPM +-1% 0402 TA-I L; TOL: 1%; MFG: TA-I (大毅); Power: 1/16W; CREATE_NAME: Nathan; DIP&SMD: SMD; SAP: T502165001394; Package: 0402; MFG Part: *; Vendor Code: *; Vendor Name: *; Type: Resistor; CREATE_TIME: 25-May-2016; Customer Specific: N/A
footprint 0402-RW
pins: 1, 2

## RES0402 1/16W 1% 178 OMH_WALSIN
designator R?, comment value 178R  (hidden comment: T502178001399)
CHIP 178 OHM   100PPM +-1% 0402 WALS L; TOL: 1%; MFG: WALSIN (華新); Power: 1/16W; CREATE_NAME: Nathan; DIP&SMD: SMD; SAP: T502178001399; Package: 0402; MFG Part: *; Vendor Code: *; Vendor Name: *; Type: Resistor; CREATE_TIME: 25-May-2016; Customer Specific: N/A
footprint 0402-RW
pins: 1, 2

## RES0402 1/16W 1% 180 OMH_WALSIN
designator R?, comment value 180R  (hidden comment: T502180001399)
CHIP 180 OHM   100PPM +-1% 0402 WALS L; TOL: 1%; MFG: WALSIN (華新); Power: 1/16W; CREATE_NAME: Nathan; DIP&SMD: SMD; SAP: T502180001399; Package: 0402; MFG Part: *; Vendor Code: *; Vendor Name: *; Type: Resistor; CREATE_TIME: 25-May-2016; Customer Specific: N/A
footprint 0402-RW
pins: 1, 2

## RES0402 1/16W 1% 180 OMH_YAGEO
designator R?, comment value 180R  (hidden comment: T502180001391)
CHIP 180 OHM   100PPM +-1% 0402 YAGE L; TOL: 1%; MFG: YAGEO (國巨); Power: 1/16W; CREATE_NAME: Nathan; DIP&SMD: SMD; SAP: T502180001391; Package: 0402; MFG Part: *; Vendor Code: *; Vendor Name: *; Type: Resistor; CREATE_TIME: 23-May-2016; Customer Specific: N/A
footprint 0402-RW
pins: 1, 2

## RES0402 1/16W 1% 180K OHM 100PPM
designator R?, comment value 180K  (hidden comment: QCF161240-1803)
CHIP RES 100ppm 180K OHM 1% 1/16W 0402; SAP: T502180301399; CREATE_NAME: GordonL@Deftronics; DIP&SMD: SMD; Vendor Code: *; Power: 1/16W; Vendor Name: *; MFG Part: *; MFG: *; TOL: 1%; Type: Resistor; CREATE_TIME: 11-Mar-2014; PACKAGE: 0402; Customer Specific: N/A
footprint 0402-RW
pins: 1, 2

## RES0402 1/16W 1% 191K OMH_WALSIN
designator R?, comment value 191K  (hidden comment: T502191301399)
CHIP 191K OHM 100PPM +-1% 0402 WALS L; MFG Part: WR04X1913FTL; TOL: 1%; MFG: WALSIN; Power: 1/16W; CREATE_NAME: Nathan; DIP&SMD: SMD; SAP: T502191301399; Package: 0402; Vendor Code: *; Vendor Name: *; Type: Resistor; CREATE_TIME: 17-Feb-2020; Customer Specific: N/A
footprint 0402-RW
pins: 1, 2

## RES0402 1/16W 1% 200 OMH_WALSIN
designator R?, comment value 200R  (hidden comment: T502200001399)
CHIP 200 OHM   100PPM +-1% 0402 WALS L; TOL: 1%; MFG: WALSIN (華新); Power: 1/16W; CREATE_NAME: Nathan; DIP&SMD: SMD; SAP: T502200001399; Package: 0402; MFG Part: *; Vendor Code: *; Vendor Name: *; Type: Resistor; CREATE_TIME: 25-May-2016; Customer Specific: N/A
footprint 0402-RW
pins: 1, 2

## RES0402 1/16W 1% 200 OMH_YAGEO
designator R?, comment value 200R  (hidden comment: T502200001391)
CHIP 200 OHM   100PPM +-1% 0402 YAGE L; TOL: 1%; MFG: YAGEO (國巨); Power: 1/16W; CREATE_NAME: Nathan; DIP&SMD: SMD; SAP: T502200001391; Package: 0402; MFG Part: *; Vendor Code: *; Vendor Name: *; Type: Resistor; CREATE_TIME: 23-May-2016; Customer Specific: N/A
footprint 0402-RW
pins: 1, 2

## RES0402 1/16W 1% 200K OHM
designator R?, comment value 200K  (hidden comment: QCF161240-2003)
CHIP RES 200K OHM  1/16W  1% 0402; SAP: T502200301399; CREATE_NAME: GordonL@Deftronics; DIP&SMD: SMD; Vendor Code: *; Power: 1/16W; Vendor Name: *; MFG Part: *; MFG: *; TOL: 1%; Type: Resistor; CREATE_TIME: 20-Mar-2014; PACKAGE: 0402; Customer Specific: N/A
footprint 0402-RW
pins: 1, 2

## RES0402 1/16W 1% 210K OMH_WALSIN
designator R?, comment value 210K  (hidden comment: T502210301399)
CHIP 210K OHM  100PPM +-1% 0402 WALS L; TOL: 1%; MFG: WALSIN (華新); Power: 1/16W; CREATE_NAME: Nathan; DIP&SMD: SMD; SAP: T502210301399; Package: 0402; MFG Part: *; Vendor Code: *; Vendor Name: *; Type: Resistor; CREATE_TIME: 25-May-2016; Customer Specific: N/A
footprint 0402-RW
pins: 1, 2

## RES0402 1/16W 1% 220 OHM
designator R?, comment value 220R  (hidden comment: QCF161240-2200)
CHIP RES 220 OHM 1/16W 1% 0402; SAP: T502220001399; MFG: WALSIN; DIP&SMD: SMD; Vendor Code: *; Power: 1/16W; Vendor Name: *; MFG Part: *; TOL: 1%; Type: Resistor; PACKAGE: 0402; Customer Specific: N/A
footprint 0402-RW
pins: 1, 2

## RES0402 1/16W 1% 220K OHM
designator R?, comment value 220K  (hidden comment: QCF161240-2203)
CHIP RES 220K OHM 1/16W 1% 0402; SAP: T502220301399; MFG: WALSIN; DIP&SMD: SMD; Vendor Code: *; Power: 1/16W; Vendor Name: *; MFG Part: *; TOL: 1%; Type: Resistor; PACKAGE: 0402; Customer Specific: N/A
footprint 0402-RW
pins: 1, 2

## RES0402 1/16W 1% 232K OHM
designator R?, comment value 232K  (hidden comment: QCF161240-2323)
CHIP RES 232K OHM 1% 1/16W 0402; SAP: T502232301399; CREATE_NAME: GordonL@Deftronics; DIP&SMD: SMD; Vendor Code: *; Power: 1/16W; Vendor Name: *; MFG Part: *; MFG: *; TOL: 1%; Type: Resistor; CREATE_TIME: 11-Mar-2014; PACKAGE: 0402; Customer Specific: N/A
footprint 0402-RW
pins: 1, 2

## RES0402 1/16W 1% 240 OHM_50PPM_YAGEO
designator R?, comment value 240  (hidden comment: T501240001321)
CHIP 240 OHM   50PPM +-1% 0402 YAGE H; TOL: 1%; MFG: YAGEO (國巨); Power: 1/16W; CREATE_NAME: Nathan; DIP&SMD: SMD; SAP: T501240001321; Package: 0402; MFG Part: *; Vendor Code: *; Vendor Name: *; Type: Resistor; CREATE_TIME: 23-May-2016; Customer Specific: N/A
footprint 0402-RW
pins: 1, 2

## RES0402 1/16W 1% 240 OHM_WALSIN
designator R?, comment value 240R  (hidden comment: T502240001399)
CHIP 240 OHM 100PPM +-1% 0402 WALS L; TOL: 1%; MFG: WALSIN; Power: 1/16W; CREATE_NAME: Nathan; DIP&SMD: SMD; SAP: T502240001399; Package: 0402; MFG Part: *; Vendor Code: *; Vendor Name: *; Type: Resistor; CREATE_TIME: 27-Mar-2019; Customer Specific: N/A
footprint 0402-RW
pins: 1, 2

## RES0402 1/16W 1% 249K OMH_WALSIN
designator R?, comment value 249K  (hidden comment: T502249301399)
CHIP 249K OHM 100PPM +-1% 0402 WALS L; TOL: 1%; MFG: WALSIN (華新); Power: 1/16W; CREATE_NAME: Nathan; DIP&SMD: SMD; SAP: T502249301399; Package: 0402; MFG Part: *; Vendor Code: *; Vendor Name: *; Type: Resistor; CREATE_TIME: 25-May-2016; Customer Specific: N/A
footprint 0402-RW
pins: 1, 2

## RES0402 1/16W 1% 255K OMH_WALSIN
designator R?, comment value 255K  (hidden comment: T502255301399)
CHIP 255K OHM 100PPM +-1% 0402 WALS L; TOL: 1%; MFG: WALSIN (華新); Power: 1/16W; CREATE_NAME: Nathan; DIP&SMD: SMD; SAP: T502255301399; Package: 0402; MFG Part: *; Vendor Code: *; Vendor Name: *; Type: Resistor; CREATE_TIME: 25-May-2016; Customer Specific: N/A
footprint 0402-RW
pins: 1, 2

## RES0402 1/16W 1% 270 OHM
designator R?, comment value 270R  (hidden comment: T502270001399)
CHIP 270 OHM   100PPM +-1% 0402 WALS G; MFG Part: WR04X2700FTL; Power: 1/16W; MFG: WALSIN; TOL: 1%; CREATE_NAME: Cherry; DIP&SMD: SMD; Vendor Code: *; SAP: T502270001399; Vendor Name: *; Type: Resistor; PACKAGE: 0402; CREATE_TIME: 24-Feb-2016; Customer Specific: N/A
footprint 0402-RW
pins: 1, 2

## RES0402 1/16W 1% 270K OHM
designator R?, comment value 270K  (hidden comment: QCF161240-2703)
CHIP RES 270K OHM  1% 1/16W 0402; SAP: T502270301399; MFG: WALSIN; DIP&SMD: SMD; Vendor Code: *; Power: 1/16W; Vendor Name: *; MFG Part: *; TOL: 1%; Type: Resistor; PACKAGE: 0402; Customer Specific: N/A
footprint 0402-RW
pins: 1, 2

## RES0402 1/16W 1% 287K OMH_WALSIN
designator R?, comment value 287K  (hidden comment: T502287301399)
CHIP 287K OHM 100PPM +-1% 0402 WALS L; MFG Part: WR04X2873FTL; TOL: 1%; MFG: WALSIN; Power: 1/16W; CREATE_NAME: Nathan; DIP&SMD: SMD; SAP: T502287301399; Package: 0402; Vendor Code: *; Vendor Name: *; Type: Resistor; CREATE_TIME: 21-Nov-2017; Customer Specific: N/A
footprint 0402-RW
pins: 1, 2

## RES0402 1/16W 1% 300 OMH_WALSIN
designator R?, comment value 300R  (hidden comment: T502300001399)
CHIP 300 OHM   100PPM +-1% 0402 WALS L; TOL: 1%; MFG: WALSIN (華新); Power: 1/16W; CREATE_NAME: Nathan; DIP&SMD: SMD; SAP: T502300001399; Package: 0402; MFG Part: *; Vendor Code: *; Vendor Name: *; Type: Resistor; CREATE_TIME: 25-May-2016; Customer Specific: N/A
footprint 0402-RW
pins: 1, 2

## RES0402 1/16W 1% 300K OHM
designator R?, comment value 300K  (hidden comment: QCF161240-3003)
CHIP RES 300K OHM 1% 1/16W 0402; Vendor Code: 10010262; SAP: T502300301399; Vendor Name: 东莞市晴远电子有限公司; CREATE_NAME: Nathan; DIP&SMD: SMD; Power: 1/16W; MFG Part: *; MFG: *; TOL: 1%; Type: Resistor; PACKAGE: 0402; CREATE_TIME: 15-SEP-2015; Customer Specific: N/A
footprint 0402-RW
pins: 1, 2

## RES0402 1/16W 1% 301K OHM_YAGEO
designator R?, comment value 301K  (hidden comment: T502301301391)
CHIP 301K OHM 100PPM +-1% 0402 YAGE L; MFG Part: RC0402FR-07301KL; Power: 1/16W; MFG: YAGEO; TOL: 1%; CREATE_NAME: Nathan; DIP&SMD: SMD; Vendor Code: *; SAP: T502301301391; Vendor Name: *; Type: Resistor; PACKAGE: 0402; CREATE_TIME: 27-Jun-2019; Customer Specific: N/A
footprint 0402-RW
pins: 1, 2

## RES0402 1/16W 1% 330 OHM
designator R?, comment value 330R  (hidden comment: QCF161240-3300)
CHIP RES  330 OHM 1/16W 1% 0402; SAP: T502330001399; DIP&SMD: SMD; Vendor Code: *; Power: 1/16W; Vendor Name: *; MFG Part: *; MFG: *; TOL: 1%; Type: Resistor; PACKAGE: 0402; Customer Specific: N/A
footprint 0402-RW
pins: 1, 2

## RES0402 1/16W 1% 330K OMH_WALSIN
designator R?, comment value 330K  (hidden comment: T502330301399)
CHIP 330K OHM  100PPM +-1% 0402 WALS; TOL: 1%; MFG: WALSIN (華新); Power: 1/16W; CREATE_NAME: Nathan; DIP&SMD: SMD; SAP: T502330301399; Package: 0402; MFG Part: *; Vendor Code: *; Vendor Name: *; Type: Resistor; CREATE_TIME: 25-May-2016; Customer Specific: N/A
footprint 0402-RW
pins: 1, 2

## RES0402 1/16W 1% 348K OHM
designator R?, comment value 348K  (hidden comment: QCF161240-3483)
CHIP RES 348K OHM 1% 1/16W 0402; SAP: T502348301399; CREATE_NAME: GordonL@Deftronics; DIP&SMD: SMD; Vendor Code: *; Power: 1/16W; Vendor Name: *; MFG Part: *; MFG: *; TOL: 1%; Type: Resistor; CREATE_TIME: 24-Feb-2014; PACKAGE: 0402; Customer Specific: N/A
footprint 0402-RW
pins: 1, 2

## RES0402 1/16W 1% 360 OMH_WALSIN
designator R?, comment value 360R  (hidden comment: T502360001399)
CHIP 360 OHM   100PPM +-1% 0402 WALS; TOL: 1%; MFG: WALSIN (華新); Power: 1/16W; CREATE_NAME: Nathan; DIP&SMD: SMD; SAP: T502360001399; Package: 0402; MFG Part: *; Vendor Code: *; Vendor Name: *; Type: Resistor; CREATE_TIME: 25-May-2016; Customer Specific: N/A
footprint 0402-RW
pins: 1, 2

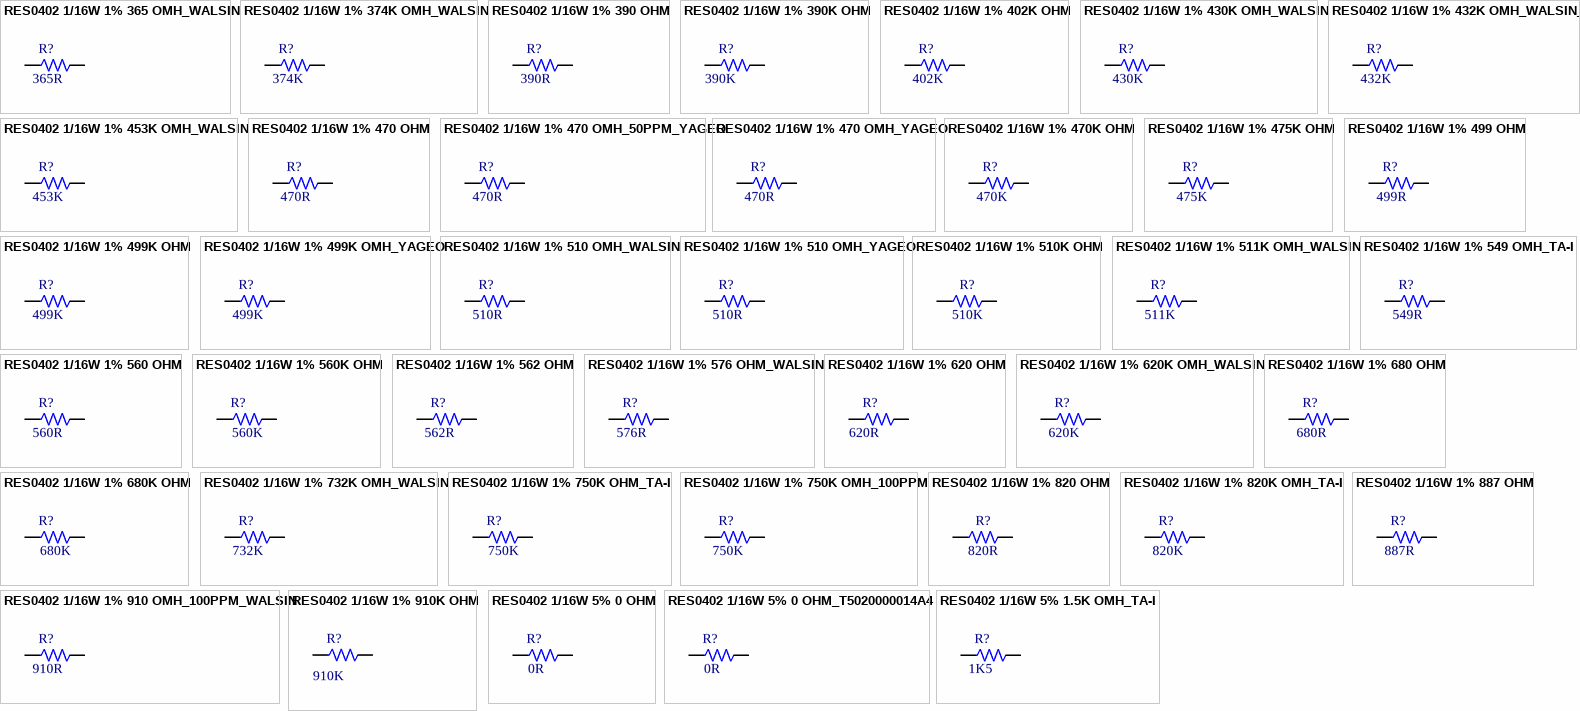
[diagram p9: symbols RES0402 1/16W 1% 365 OMH_WALSIN to RES0402 1/16W 5% 1.5K OMH_TA-I]

## RES0402 1/16W 1% 365 OMH_WALSIN
designator R?, comment value 365R  (hidden comment: T502365001399)
CHIP 365 OHM   100PPM +-1% 0402 WALS L; TOL: 1%; MFG: WALSIN (華新); Power: 1/16W; CREATE_NAME: Nathan; DIP&SMD: SMD; SAP: T502365001399; Package: 0402; MFG Part: *; Vendor Code: *; Vendor Name: *; Type: Resistor; CREATE_TIME: 25-May-2016; Customer Specific: N/A
footprint 0402-RW
pins: 1, 2

## RES0402 1/16W 1% 374K OMH_WALSIN
designator R?, comment value 374K  (hidden comment: T502374301399)
CHIP 374K OHM  100PPM +-1% 0402 WALS L; TOL: 1%; MFG: WALSIN (華新); Power: 1/16W; CREATE_NAME: Nathan; DIP&SMD: SMD; SAP: T502374301399; Package: 0402; MFG Part: *; Vendor Code: *; Vendor Name: *; Type: Resistor; CREATE_TIME: 25-May-2016; Customer Specific: N/A
footprint 0402-RW
pins: 1, 2

## RES0402 1/16W 1% 390 OHM
designator R?, comment value 390R  (hidden comment: QCF161240-3900)
CHIP RES 390 OHM 1/16W 1% 0402; SAP: T502390001399; CREATE_NAME: Nathan; DIP&SMD: SMD; Vendor Code: *; Power: 1/16W; Vendor Name: *; MFG Part: *; MFG: *; TOL: 1%; Type: Resistor; CREATE_TIME: 05-Feb-2015; PACKAGE: 0402; Customer Specific: N/A
footprint 0402-RW
pins: 1, 2

## RES0402 1/16W 1% 390K OHM
designator R?, comment value 390K  (hidden comment: QCF161240-3903)
CHIP RES 390K OHM 1% 1/16W 0402; SAP: T502390301399; CREATE_NAME: GordonL@Deftronics; DIP&SMD: SMD; Vendor Code: *; Power: 1/16W; Vendor Name: *; MFG Part: *; MFG: *; TOL: 1%; Type: Resistor; CREATE_TIME: 05-Jan-2013; PACKAGE: 0402; Customer Specific: N/A
footprint 0402-RW
pins: 1, 2

## RES0402 1/16W 1% 402K OHM
designator R?, comment value 402K  (hidden comment: QCF161240-4023)
CHIP RES 402K OHM 1% 1/16W 0402; SAP: T502402301399; CREATE_NAME: TOM@Deftronics; DIP&SMD: SMD; Package: 0402; TOL: 1%; MFG Part: *; MFG: *; Vendor Code: *; Vendor Name: *; Type: Resistor; Power: 1/16W; CREATE_TIME: 15-May-2014; Customer Specific: N/A
footprint 0402-RW
pins: 1, 2

## RES0402 1/16W 1% 430K OMH_WALSIN
designator R?, comment value 430K  (hidden comment: T502430301399)
CHIP 430K OHM  100PPM +-1% 0402 WALS L; TOL: 1%; MFG: WALSIN (華新); Power: 1/16W; CREATE_NAME: Nathan; DIP&SMD: SMD; SAP: T502430301399; Package: 0402; MFG Part: *; Vendor Code: *; Vendor Name: *; Type: Resistor; CREATE_TIME: 25-May-2016; Customer Specific: N/A
footprint 0402-RW
pins: 1, 2

## RES0402 1/16W 1% 432K OMH_WALSIN_8
designator R?, comment value 432K  (hidden comment: T502432301399)
CHIP 432K OHM  100PPM +-1% 0402 WALS L; TOL: 1%; MFG: WALSIN (華新); Power: 1/16W; CREATE_NAME: Nathan; DIP&SMD: SMD; SAP: T502432301399; Package: 0402; MFG Part: *; Vendor Code: *; Vendor Name: *; Type: Resistor; CREATE_TIME: 25-May-2016; Customer Specific: N/A
footprint 0402-RW
pins: 1, 2

## RES0402 1/16W 1% 453K OMH_WALSIN
designator R?, comment value 453K  (hidden comment: T502453301399)
CHIP 453K OHM  100PPM +-1% 0402 WALS; TOL: 1%; MFG: WALSIN (華新); Power: 1/16W; CREATE_NAME: Nathan; DIP&SMD: SMD; SAP: T502453301399; Package: 0402; MFG Part: *; Vendor Code: *; Vendor Name: *; Type: Resistor; CREATE_TIME: 25-May-2016; Customer Specific: N/A
footprint 0402-RW
pins: 1, 2

## RES0402 1/16W 1% 470 OHM
designator R?, comment value 470R  (hidden comment: QCF161240-4700)
CHIP RES 470 OHM 1/16W 1% 0402; SAP: T502470001399; MFG: WALSIN; DIP&SMD: SMD; Vendor Code: *; Power: 1/16W; Vendor Name: *; MFG Part: *; TOL: 1%; Type: Resistor; PACKAGE: 0402; Customer Specific: N/A
footprint 0402-RW
pins: 1, 2

## RES0402 1/16W 1% 470 OMH_50PPM_YAGEO
designator R?, comment value 470R  (hidden comment: T501470001321)
CHIP 470 OHM   50PPM +-1% 0402 YAGE H; TOL: 1%; MFG: YAGEO (國巨); Power: 1/16W; CREATE_NAME: Nathan; DIP&SMD: SMD; SAP: T501470001321; Package: 0402; MFG Part: *; Vendor Code: *; Vendor Name: *; Type: Resistor; CREATE_TIME: 23-May-2016; Customer Specific: N/A
footprint 0402-RW
pins: 1, 2

## RES0402 1/16W 1% 470 OMH_YAGEO
designator R?, comment value 470R  (hidden comment: T502470001391)
CHIP 470 OHM   100PPM +-1% 0402 YAGE L; TOL: 1%; MFG: YAGEO (國巨); Power: 1/16W; CREATE_NAME: Nathan; DIP&SMD: SMD; SAP: T502470001391; Package: 0402; MFG Part: *; Vendor Code: *; Vendor Name: *; Type: Resistor; CREATE_TIME: 23-May-2016; Customer Specific: N/A
footprint 0402-RW
pins: 1, 2

## RES0402 1/16W 1% 470K OHM
designator R?, comment value 470K  (hidden comment: QCF161240-4703)
CHIP RES 470K 1/16W 1% 0402; SAP: T502470301399; MFG: WALSIN; DIP&SMD: SMD; Vendor Code: *; Power: 1/16W; Vendor Name: *; MFG Part: *; TOL: 1%; Type: Resistor; PACKAGE: 0402; Customer Specific: N/A
footprint 0402-RW
pins: 1, 2

## RES0402 1/16W 1% 475K OHM
designator R?, comment value 475K  (hidden comment: QCF161240-4753)
CHIP RES. 475K OHM 1/16W 1% 0402; SAP: T502475301399; CREATE_NAME: GordonL@Deftronics; DIP&SMD: SMD; Vendor Code: *; Power: 1/16W; Vendor Name: *; MFG Part: *; MFG: *; TOL: 1%; Type: Resistor; CREATE_TIME: 05-Jan-2013; PACKAGE: 0402; Customer Specific: N/A
footprint 0402-RW
pins: 1, 2

## RES0402 1/16W 1% 499 OHM
designator R?, comment value 499R  (hidden comment: QCF161240-4990)
CHIP RES 499 OHM 1% 1/16W 0402; SAP: T502499001399; CREATE_NAME: GordonL@Deftronics; DIP&SMD: SMD; Vendor Code: *; Power: 1/16W; Vendor Name: *; MFG Part: *; MFG: *; TOL: 1%; Type: Resistor; CREATE_TIME: 05-Jan-2013; PACKAGE: 0402; Customer Specific: N/A
footprint 0402-RW
pins: 1, 2

## RES0402 1/16W 1% 499K OHM
designator R?, comment value 499K  (hidden comment: QCF161241-4993)
CHIP RES 499K OHM 1% 1/16W 0402; SAP: T502499301399; CREATE_NAME: GordonL@Deftronics; DIP&SMD: SMD; Vendor Code: *; Power: 1/16W; Vendor Name: *; MFG Part: *; MFG: *; TOL: 1%; Type: Resistor; CREATE_TIME: 01-Apr-2014; PACKAGE: 0402; Customer Specific: N/A
footprint 0402-RW
pins: 1, 2

## RES0402 1/16W 1% 499K OMH_YAGEO
designator R?, comment value 499K  (hidden comment: T502499301391)
CHIP 499K OHM  100PPM +-1% 0402 YAGE L; TOL: 1%; MFG: YAGEO (國巨); Power: 1/16W; CREATE_NAME: Nathan; DIP&SMD: SMD; SAP: T502499301391; Package: 0402; MFG Part: *; Vendor Code: *; Vendor Name: *; Type: Resistor; CREATE_TIME: 23-May-2016; Customer Specific: N/A
footprint 0402-RW
pins: 1, 2

## RES0402 1/16W 1% 510 OMH_WALSIN
designator R?, comment value 510R  (hidden comment: T502510001399)
CHIP 510 OHM   100PPM +-1% 0402 WALS G; TOL: 1%; MFG: WALSIN (華新); Power: 1/16W; CREATE_NAME: Nathan; DIP&SMD: SMD; SAP: T502510001399; Package: 0402; MFG Part: *; Vendor Code: *; Vendor Name: *; Type: Resistor; CREATE_TIME: 25-May-2016; Customer Specific: N/A
footprint 0402-RW
pins: 1, 2

## RES0402 1/16W 1% 510 OMH_YAGEO
designator R?, comment value 510R  (hidden comment: T502510001391)
CHIP 510 OHM   100PPM +-1% 0402 YAGE L; TOL: 1%; MFG: YAGEO (國巨); Power: 1/16W; CREATE_NAME: Nathan; DIP&SMD: SMD; SAP: T502510001391; Package: 0402; MFG Part: *; Vendor Code: *; Vendor Name: *; Type: Resistor; CREATE_TIME: 23-May-2016; Customer Specific: N/A
footprint 0402-RW
pins: 1, 2

## RES0402 1/16W 1% 510K OHM
designator R?, comment value 510K  (hidden comment: QCF161240-5103)
RES, 510K OHM, 1/16W, 1%, 0402, RoHS; SAP: T502510301399; CREATE_NAME: TOM@Deftronics; DIP&SMD: SMD; Package: 0402; TOL: 1%; MFG Part: *; MFG: *; Vendor Code: *; Vendor Name: *; Type: Resistor; Power: 1/16W; CREATE_TIME: 13-May-2014; Customer Specific: N/A
footprint 0402-RW
pins: 1, 2

## RES0402 1/16W 1% 511K OMH_WALSIN
designator R?, comment value 511K  (hidden comment: T502511301399)
CHIP 511K OHM  100PPM +-1% 0402 WALS; TOL: 1%; MFG: WALSIN (華新); Power: 1/16W; CREATE_NAME: Nathan; DIP&SMD: SMD; SAP: T502511301399; Package: 0402; MFG Part: *; Vendor Code: *; Vendor Name: *; Type: Resistor; CREATE_TIME: 25-May-2016; Customer Specific: N/A
footprint 0402-RW
pins: 1, 2

## RES0402 1/16W 1% 549 OMH_TA-I
designator R?, comment value 549R  (hidden comment: T502549001394)
CHIP 549 OHM   100PPM +-1% 0402 TA-I L; TOL: 1%; MFG: TA-I (大毅); Power: 1/16W; CREATE_NAME: Nathan; DIP&SMD: SMD; SAP: T502549001394; Package: 0402; MFG Part: *; Vendor Code: *; Vendor Name: *; Type: Resistor; CREATE_TIME: 25-May-2016; Customer Specific: N/A
footprint 0402-RW
pins: 1, 2

## RES0402 1/16W 1% 560 OHM
designator R?, comment value 560R  (hidden comment: QCF161240-5600)
CHIP RES. 560 OHM 1% 1/16W 0402; SAP: T502560001399; CREATE_NAME: GordonL@Deftronics; DIP&SMD: SMD; Vendor Code: *; Power: 1/16W; Vendor Name: *; MFG Part: *; MFG: *; TOL: 1%; Type: Resistor; CREATE_TIME: 05-Jan-2013; PACKAGE: 0402; Customer Specific: N/A
footprint 0402-RW
pins: 1, 2

## RES0402 1/16W 1% 560K OHM
designator R?, comment value 560K  (hidden comment: QCF161240-5603)
CHIP RES 560K OHM  1% 1/16W 0402; SAP: T502560301399; CREATE_NAME: Nathan; DIP&SMD: SMD; Package: 0402; TOL: 1%; MFG Part: *; MFG: *; Vendor Code: *; Vendor Name: *; Type: Resistor; Power: 1/16W; CREATE_TIME: 12-JAN-2015; Customer Specific: N/A
footprint 0402-RW
pins: 1, 2

## RES0402 1/16W 1% 562 OHM
designator R?, comment value 562R  (hidden comment: QCF161240-5620)
CHIP RES 562 OHM 1% 1/16W 0402; SAP: T502562001399; CREATE_NAME: TOM@Deftronics; DIP&SMD: SMD; Package: 0402; TOL: 1%; MFG Part: *; MFG: *; Vendor Code: *; Vendor Name: *; Type: Resistor; Power: 1/16W; CREATE_TIME: 05-Jun-2014; Customer Specific: N/A
footprint 0402-RW
pins: 1, 2

## RES0402 1/16W 1% 576 OHM_WALSIN
designator R?  value 576R  (hidden comment: *)
CHIP 576 OHM +-1% 0402 WALS L; MFG Part: WR04X5760FTL; TOL: 1%; MFG: WALSIN; Power: 1/16W; CREATE_NAME: Nathan; DIP&SMD: SMD; SAP: *; Package: 0402; Vendor Code: *; Vendor Name: *; Type: Resistor; CREATE_TIME: 10-Oct-2020; Customer Specific: N/A
footprint 0402-RW
pins: 1, 2

## RES0402 1/16W 1% 620 OHM
designator R?, comment value 620R  (hidden comment: QCF161240-6200)
CHIP RES 100ppm 620 OHM 1% 1/16W 0402; SAP: T502620001399; MFG: WALSIN; CREATE_NAME: Nathan; DIP&SMD: SMD; Vendor Code: *; Power: 1/16W; Vendor Name: *; MFG Part: *; TOL: 1%; Type: Resistor; CREATE_TIME: 05-FEB-2015; PACKAGE: 0402; Customer Specific: N/A
footprint 0402-RW
pins: 1, 2